# Altium footprint library PCB - LEADED - SOP - DIODES MSOP-8EP.PCBLIB: 1 footprints
Each footprint in its own frame and in the unit in brackets; x right, y up, seen from the top. Pads: shape width x height; smd on the part's side, far side on the other; paste and mask are expansions set on the pad; w line width, h text height; cw(c..) or ccw(c..) is an arc to the next point about the centre after c.
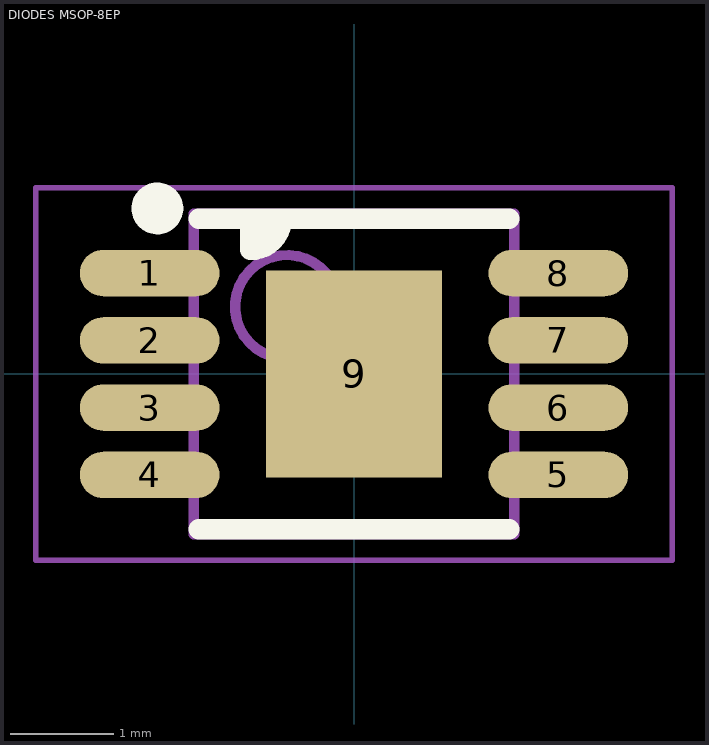
[diagram p0: the footprint, top view; thin cyan lines are the x and y axes]

## DIODES MSOP-8EP [mm] "MSOP, 8-Leads, Body 3.00x3.00mm, Pitch 0.65mm, Thermal Pad 2.00x1.70mm, IPC Medium Density"
height 1.1
pads (9):
  oval 1.35x0.45 smd: 1(-1.975,0.975) 2(-1.975,0.325) 3(-1.975,-0.325) 4(-1.975,-0.975) 5(1.975,-0.975) 6(1.975,-0.325) 7(1.975,0.325) 8(1.975,0.975)
  rect 1.7x2 smd: 9(0,0)
Top Overlay:
  circle w0.25: c-1.9,1.6 r0.125
  region: -0.7,1.5 -1,1.5 -1,1.2
  lines w0.2: -1.5,-1.5 1.5,-1.5 ; -1.5,1.5 1.5,1.5 ; -1,1.5 -1,1.2 ccw(c-1,1.5) -0.7,1.5
Mechanical 13:
  circle w0.1: c-0.65,0.65 r0.5
  lines w0.1: -1.55,-1.55 -1.55,1.55 1.55,1.55 1.55,-1.55 -1.55,-1.55
Mechanical 15:
  lines w0.05: -3.075,-1.8 -3.075,1.8 3.075,1.8 3.075,-1.8 -3.075,-1.8
Mechanical 2 (Mech9):
  lines w0.1: -0.5,0 0.5,0 ; 0,-0.5 0,0.5
3D body "MSOP-8.STEP": height 1.1, standoff 0, extent -2.46,-1.5 2.46,1.5